# EAGLE library part MUSB-05-S-B-SM-A (library MUSB-05-S-B-SM-A)
CONN RECEPT USB MINI B SMD R/A
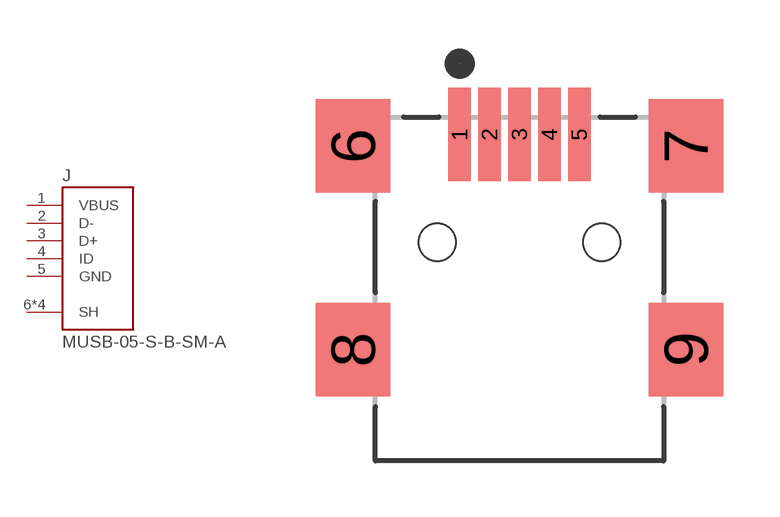
[diagram p0: symbol with the pads of SAMTEC_MUSB-05-S-B-SM-A; footprint SAMTEC_MUSB-05-S-B-SM-A]

Designator prefix J

## MUSB-05-S-B-SM-A (Availability: Unavailable; Description: USB - mini B USB 2.0 Receptacle Connector 5 Position Surface Mount, Right Angle; MF: Samtec; MP: MUSB-05-S-B-SM-A; Package: None; Price: None)  [SAMTEC_MUSB-05-S-B-SM-A]
1  VBUS  pas
2  D-  pas
3  D+  pas
4  ID  pas
5  GND  pas
6  SH  pas
7  SH  pas
8  SH  pas
9  SH  pas

## Footprint SAMTEC_MUSB-05-S-B-SM-A (pad centres in mm)
smd 0.6 x 2.5: 1 -1.6,0; 2 -0.8,0; 3 0,0; 4 0.8,0; 5 1.6,0
smd 2 x 2.5: 6 -4.45,-0.3; 7 4.45,-0.3; 8 -4.45,-5.75; 9 4.45,-5.75
hole 1 at 2.2,-2.88
hole 1 at -2.2,-2.88